# Altium schematic symbol library adding.SchLib: 1 symbol
Pins are listed as number, name and electrical type; pins without a type are passive.

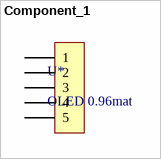
[diagram p0: symbol Component_1]

## Component_1
designator U*, comment OLED 0.96mat
OLED
pins: 1, 2, 3, 4, 5